# Altium schematic symbol library CeleronLib.SchLib: 64 symbols (part 2 of 2)
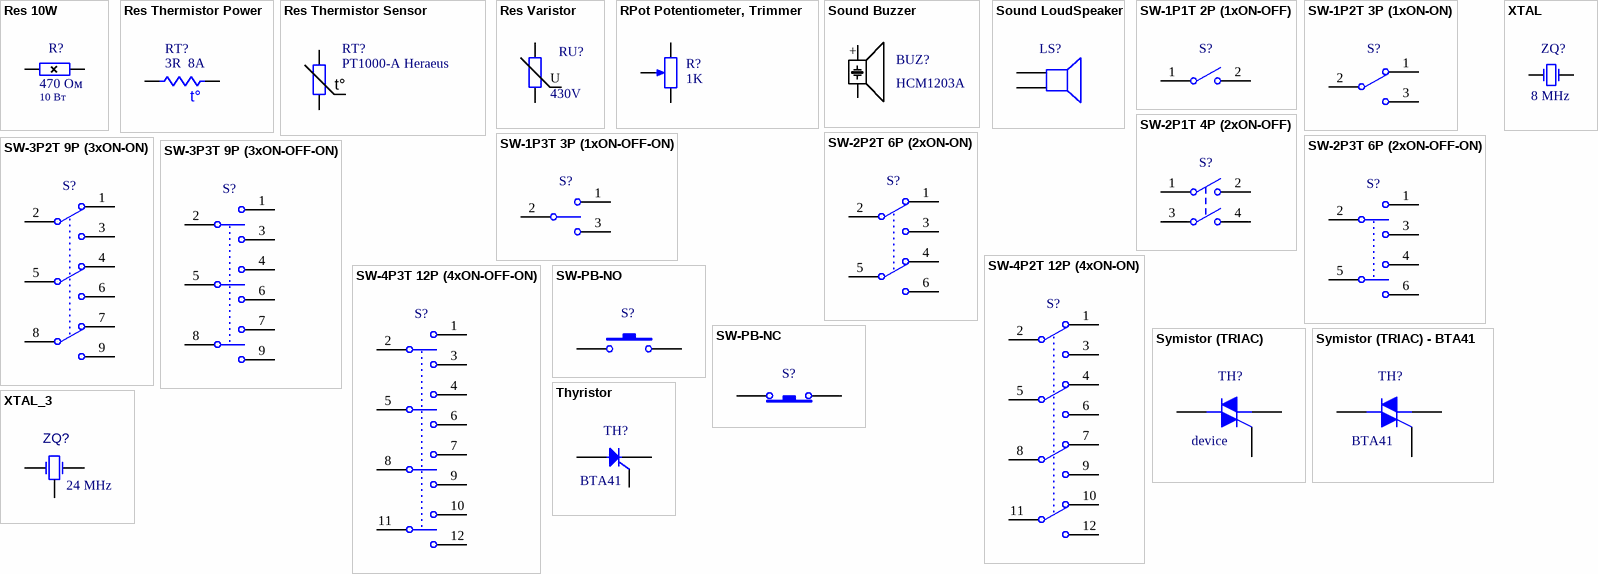
[diagram p2: symbols Res 10W to XTAL_3]

## SW-4P2T 12P (4xON-ON)
designator S?, comment Тумблер MTS-402  (value not drawn)
Четыре группы контактов, два стабильных положения, два полюса (12 выводов); Device: MTS-402; ComponentLink1Description: Сайт производителя; ComponentLink1URL: http://www.chinadaier.com; ComponentLink2Description: Datasheet; Family: Тумблер; ComponentLink3Description: Где купить?; ComponentLink3URL: http://voron.ua/catalog/025212
footprint SW-3.8mm-12P (Контактные площадки под монтажные провода (1mm hole))
footprint SW-6.3mm-12P (2.8mm FASTON Tab For PC Board (1.4mm hole))
pins: 1, 2, 3, 4, 5, 6, 7, 8, 9, 10, 11, 12

## SW-4P3T 12P (4xON-OFF-ON)
designator S?, comment Тумблер MTS-403  (value not drawn)
Четыре группы контактов, три стабильных положения, два полюса (12 выводов); Device: MTS-403; ComponentLink2Description: Datasheet; ComponentLink1Description: Сайт производителя; ComponentLink1URL: http://www.chinadaier.com; Family: Тумблер; ComponentLink3Description: Где купить?; ComponentLink3URL: http://voron.ua/catalog/025213
footprint SW-3.8mm-12P (Контактные площадки под монтажные провода (1mm hole))
footprint SW-6.3mm-12P (2.8mm FASTON Tab For PC Board (1.4mm hole))
pins: 1, 2, 3, 4, 5, 6, 7, 8, 9, 10, 11, 12

## SW-PB-NO
designator S?, comment Кнопка TACT 12x12-5.0  (value not drawn)
Push-Button (PB), Normally Open (NO) - Без фиксации, нормально разомкнутая, одна группа контактов (2 вывода); ComponentLink2Description: Datasheet; ComponentLink1Description: Сайт производителя; Family: Кнопка; Device: TACT 12x12-5.0; ComponentLink3Description: Где купить?; Name: нормально разомкнутая
footprint TACT 6x6-5.0 DIP (Кнопка тактовая, DIP, 6.5х4.5, h=5.0 мм, 13.0 мм  (KAN0611))
footprint TACT 12x12-5.0 DIP (Кнопка тактовая, DIP, 12х12, h=5.0 мм)
footprint TACT 6x6-5.0 Angle DIP (Right Angle Micro Miniature Tactile Pushbutton Switche, Round Actuator Length = 5.74mm, FSMRAJ Serie)
footprint TACT 3.5x6-4.3 SMD (Body 3.5x6.0mm, Pushbutton Switch,  TYCO FSMSM Serie)
footprint TACT 6x6-4.3 SMD (Body 6mm x 6mm, Surface Mount Tactile Switches, TYCO FSMJSMA Series)
footprint SW-3.8mm-2P (Контактные площадки под монтажные провода (1mm hole))
footprint SW-6.3mm-2P (2.8mm FASTON Tab For PC Board (1.4mm hole))
pins: 1, 2

## SW-PB-NС
designator S?, comment Кнопка  (value not drawn)
Push-Button (PB), Normally Closed (NC) - Без фиксации, нормально замкнутая, одна группа контактов (2 вывода); ComponentLink2Description: Datasheet; ComponentLink1Description: Сайт производителя; Family: Кнопка; ComponentLink3Description: Где купить?; Name: нормально замкнутая
footprint SW-3.8mm-2P (Контактные площадки под монтажные провода (1mm hole))
footprint SW-6.3mm-2P (2.8mm FASTON Tab For PC Board (1.4mm hole))
pins: 1, 2

## Symistor (TRIAC)
designator TH?, comment Симистор device (, ) TOP3 insulated  (value not drawn)
Симистор; ComponentLink2Description: Datasheet; ComponentLink1Description: Сайт производителя; Family: Симистор; Package: TOP3 insulated; ComponentLink3Description: Где купить?; Device: device
footprint TO-3P03A_v (FAIRCHILD TO3,  3-Terminal - Vertical Mount)
footprint TO-3PF_v (FAIRCHILD TO-3PF 3-Terminal - Vertical Mount)
footprint TO-220-v (TO-220 3-Terminal - Vertical Mount); pin to pad 2>3 3>2
pins: 1 T1, 2 T2, 3 G

## Symistor (TRIAC) - BTA41
designator TH?, comment Device: BTA41  (hidden comment: Симистор BTA41 (40A, 800V) TOP3 insulated)
Симистор; ComponentLink2Description: Datasheet; ComponentLink1Description: Сайт производителя; Family: Симистор; Package: TOP3 insulated; Current: 40A; Voltage: 800V; ComponentLink3Description: Где купить?
footprint TO-3P03A_v (FAIRCHILD TO3,  3-Terminal - Vertical Mount)
footprint TO-3PF_v (FAIRCHILD TO-3PF 3-Terminal - Vertical Mount)
pins: 1 T1, 2 T2, 3 G

## Thyristor
designator TH?, comment Device: BTA41  (hidden comment: Тиристор BTA41 (40A, 800V) TOP3 insulated)
Тиристор; ComponentLink2Description: Datasheet; ComponentLink1Description: Сайт производителя; Family: Тиристор; Package: TOP3 insulated; Voltage: 800V; Current: 40A; ComponentLink3Description: Где купить?
footprint TO-220-v (TO-220 3-Terminal - Vertical Mount); pin to pad 2>3 3>2
pins: 1 C, 2 A, 3 G

## XTAL
designator ZQ?, comment value 8 MHz  (hidden comment: Кварц  XTAL HC-49  (8 MHz))
Crystal Oscillator; Tolerance: <100ppm; ComponentLink2Description: Datasheet; ComponentLink1Description: Сайт производителя; Family: Кварц; ComponentLink3Description: Где купить?; Device: XTAL HC-49
simulation model XTAL (Spice Subcircuit)
footprint XTAL HC-49/S (HC-49/S Leaded Cristal, Body 11.05x4.8mm; Pitch 4.88mm)
footprint XTAL HC-49/U (HC-49/U Leaded Cristal, Body 11.5x4.66mm; Pitch 4.88mm)
footprint XTAL HC-49/S-SM (SMD и выводной кварцевый резонатор)
footprint XTAL HC-49/SM
pins: 1 OSC1, 2 OSC2

## XTAL_3
designator ZQ?, comment value 24 MHz  (hidden comment: Кварц  XTAL HC-49  (24 MHz))
Crystal Oscillator 3 Pin (case grounded); Tolerance: <100ppm; ComponentLink2Description: Datasheet; ComponentLink1Description: Сайт производителя; Family: Кварц; Device: XTAL HC-49; ComponentLink3Description: Где купить?
footprint XTAL MICRO-CRYSTAL_MS3V-T1R (2 Pins, 1.4 x 5.2 x 1.4mm , SMD Crystal, MS3V-T1R Serie)
footprint XTAL UM-1J (Crystal)
pins: 1 OSC1, 2 OSC2, 3 GND